# Altium schematic symbol library Discrete Semiconductors.SchLib: 6 symbols
Pins are listed as number, name and electrical type; pins without a type are passive.

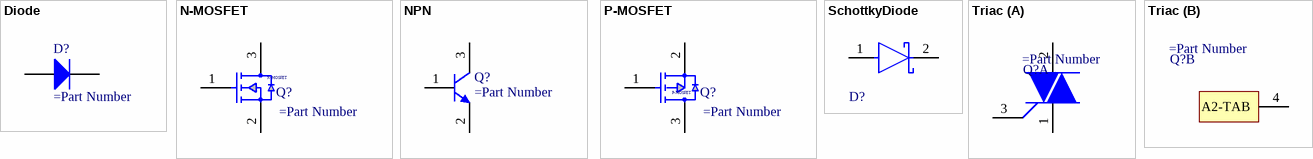
[diagram p0: symbols Diode to Triac]

## Diode
designator D?
pins: 1 A, 2 K

## N-MOSFET
designator Q?
pins: 1 G, 2 S, 3 D

## NPN
designator Q?
NPN Bipolar Transistor
pins: 1 B, 2 E, 3 C

## P-MOSFET
designator Q?
pins: 1 G, 2 S, 3 D

## SchottkyDiode
designator D?
pins: 1 A, 2 C

## Triac
designator Q?
part A pins: 1 A1, 2 A2, 3 G
part B pins: 4 A2-TAB